# Altium schematic symbol library DHT22.SchLib: 1 symbol
Pins are listed as number, name and electrical type; pins without a type are passive.

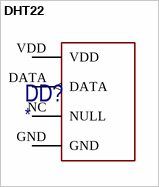
[diagram p0: symbol DHT22]

## DHT22
designator DD?
pins: DATA (out), GND (power), NC NULL, VDD (power)